# Altium footprint library PCB - CONNECTOR - SAMTEC - SAMTEC SSW-108-03-T-S.PCBLIB: 1 footprints
Each footprint in its own frame and in the unit in brackets; x right, y up, seen from the top. Pads: shape width x height; smd on the part's side, far side on the other; paste and mask are expansions set on the pad; w line width, h text height; cw(c..) or ccw(c..) is an arc to the next point about the centre after c.
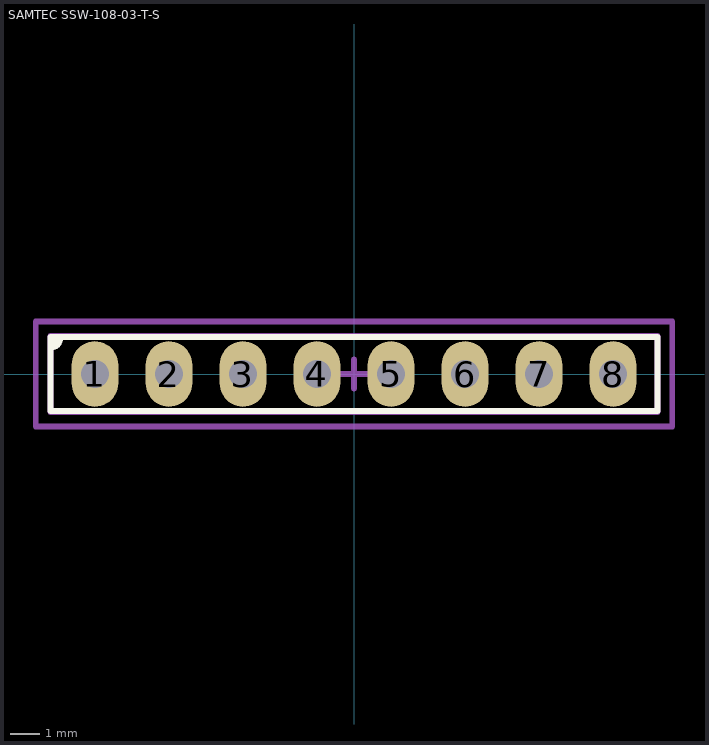
[diagram p0: the footprint, top view; thin cyan lines are the x and y axes]

## SAMTEC SSW-108-03-T-S [mm]
height 8.51
pads (8):
  oval 1.6x2.25 hole 0.95: 1(-8.89,0) 2(-6.35,0) 3(-3.81,0) 4(-1.27,0) 5(1.27,0) 6(3.81,0) 7(6.35,0) 8(8.89,0)
Top Overlay:
  region: -10.42,1.27 -10.08,1.27 -10.08,1.1 -10.28,0.9 -10.42,0.9
  lines w0.2: -10.42,0.9 ccw(c-10.42,1.24) -10.08,1.24 -10.08,1.27 ; -10.42,-1.27 10.42,-1.27 10.42,1.27 -10.42,1.27 -10.42,-1.27
Mechanical 13:
  lines w0.2: -10.42,-1.3 -10.42,1.3 10.42,1.3 10.42,-1.3 -10.42,-1.3
Mechanical 15:
  lines w0.2: -0.5,0 0.5,0 ; 0,-0.5 0,0.5 ; -10.92,-1.8 10.92,-1.8 10.92,1.8 -10.92,1.8 -10.92,-1.8
3D body "Samtec-SSW-108-03-T-S.STEP": height 8.51, standoff -10.01, extent -10.414,-1.206 10.414,1.207